# Altium footprint library SKTHAHE010.PcbLib: 1 footprints
Each footprint in its own frame and in the unit in brackets; x right, y up, seen from the top. Pads: shape width x height; smd on the part's side, far side on the other; paste and mask are expansions set on the pad; w line width, h text height; cw(c..) or ccw(c..) is an arc to the next point about the centre after c.
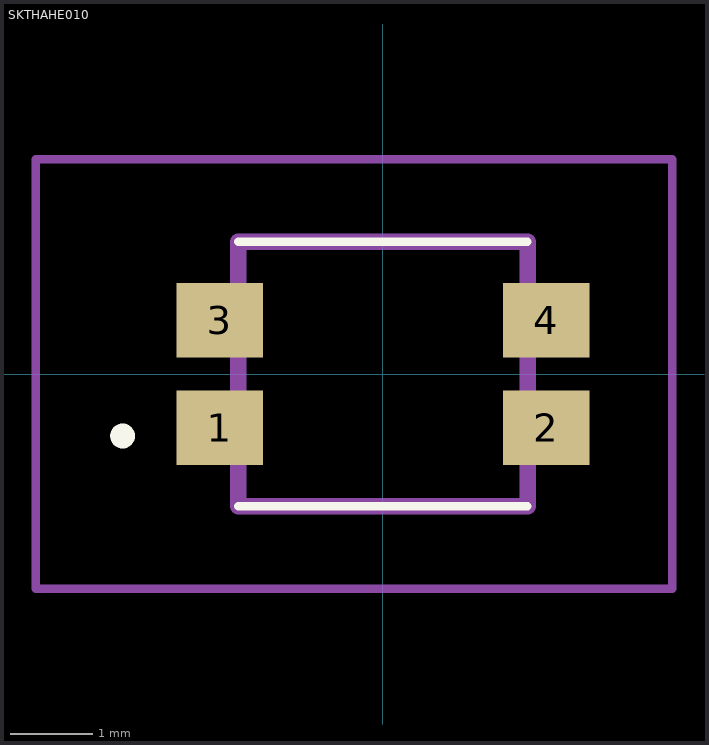
[diagram p0: the footprint, top view; thin cyan lines are the x and y axes]

## SKTHAHE010 [mm]
pads (4):
  rect 1.05x0.9 smd: 1(-1.975,-0.65) 2(1.975,-0.65) 3(-1.975,0.65) 4(1.975,0.65)
Top Overlay:
  lines w0.1: -1.75,-1.6 1.75,-1.6 ; -1.75,-1.6 1.75,-1.6 ; -1.75,-1.6 -1.75,-1.6 ; -1.75,1.6 1.75,1.6 ; -1.75,1.6 1.75,1.6 ; -1.75,1.6 -1.75,1.6 ; 1.75,-1.6 1.75,-1.6 ; 1.75,1.6 1.75,1.6
  lines w0.2: -3.2,-0.75 -3.2,-0.75 ; -3.2,-0.75 ccw(c-3.15,-0.75) -3.1,-0.75 ; -3.2,-0.75 cw(c-3.15,-0.75) -3.1,-0.75 ; -3.2,-0.75 -3.2,-0.75 ; -3.2,-0.75 ccw(c-3.15,-0.75) -3.1,-0.75 ; -3.1,-0.75 -3.1,-0.75
Mechanical 15:
  lines w0.2: -1.75,-1.6 1.75,-1.6 1.75,1.6 -1.75,1.6 -1.75,-1.6
Mechanical 20:
  lines w0.1: -4.2,-2.6 3.5,-2.6 3.5,2.6 -4.2,2.6 -4.2,-2.6